# Altium schematic symbol library ADP7185ACPZN1.0-R7.SchLib: 1 symbol
Pins are listed as number, name and electrical type; pins without a type are passive.

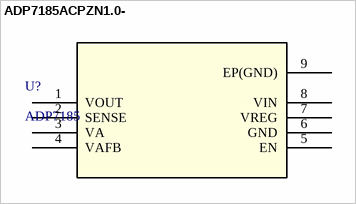
[diagram p0: symbol ADP7185ACPZN1.0-]

## ADP7185ACPZN1.0-
designator U?, comment ADP7185
LDO Voltage Regulators -500mA Ult low noise High Psrr negative; Manufacturer_Part_Number: ADP7185ACPZN1.0-R7; Vendor: Analog Devices Inc; Built_By: Analog Devices Inc.; RefDes: RefDes; Type: DEV; Value: Value
footprint CP_8_27
pins: 1 VOUT, 2 SENSE, 3 VA, 4 VAFB, 5 EN, 6 GND, 7 VREG, 8 VIN, 9 EP(GND)